# EAGLE library part ATSAMD20E (library RFiD)
ATSAMD20E edit this description Auto generated by make-symbol-device-package-bsdl.ulp Rev. 43 Source: ATSAMD20E.txt
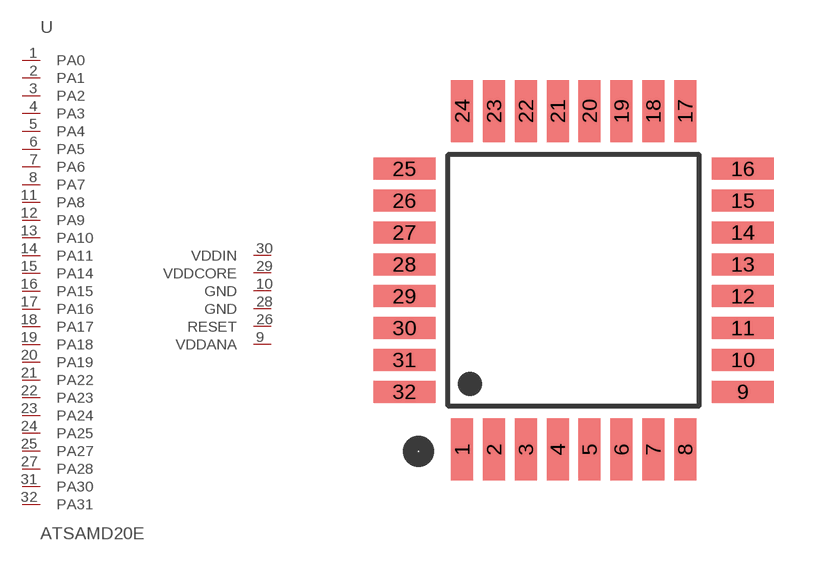
[diagram p4: symbol with the pads of TQFP32; footprint TQFP32]

Designator prefix U

## ATSAMD20E  [TQFP32]
1  PA0
2  PA1
3  PA2
4  PA3
5  PA4
6  PA5
7  PA6
8  PA7
9  VDDANA  pwr
10  GND  pwr
11  PA8
12  PA9
13  PA10
14  PA11
15  PA14
16  PA15
17  PA16
18  PA17
19  PA18
20  PA19
21  PA22
22  PA23
23  PA24
24  PA25
25  PA27
26  RESET
27  PA28
28  GND  pwr
29  VDDCORE  pwr
30  VDDIN  pwr
31  PA30
32  PA31

## Footprint TQFP32 (pad centres in mm)
smd 0.55 x 1.55: 1 -2.8,-4.25; 2 -2,-4.25; 3 -1.2,-4.25; 4 -0.4,-4.25; 5 0.4,-4.25; 6 1.2,-4.25; 7 2,-4.25; 8 2.8,-4.25; 17 2.8,4.25; 18 2,4.25; 19 1.2,4.25; 20 0.4,4.25; 21 -0.4,4.25; 22 -1.2,4.25; 23 -2,4.25; 24 -2.8,4.25
smd 1.55 x 0.55: 9 4.25,-2.8; 10 4.25,-2; 11 4.25,-1.2; 12 4.25,-0.4; 13 4.25,0.4; 14 4.25,1.2; 15 4.25,2; 16 4.25,2.8; 25 -4.25,2.8; 26 -4.25,2; 27 -4.25,1.2; 28 -4.25,0.4; 29 -4.25,-0.4; 30 -4.25,-1.2; 31 -4.25,-2; 32 -4.25,-2.8